# Altium schematic symbol library R_smd.Schlib: 1 symbol
Pins are listed as number, name and electrical type; pins without a type are passive.

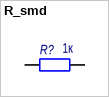
[diagram p0: symbol R_smd]

## R_smd
designator R?, comment 1к
Резистор для поверхностного монтажа; Наименование: Р1-12-0.125 ОСМ; Назначение: Чип-резистор; Потребление, Вт: 0,001; Value: 1к
footprint CR-0402
footprint CR-0805
footprint CR-1206
footprint CR-1206-0805
footprint CR-0603
pins: 1, 2